# Altium footprint library Mosfet.PcbLib: 1 footprints
Each footprint in its own frame and in the unit in brackets; x right, y up, seen from the top. Pads: shape width x height; smd on the part's side, far side on the other; paste and mask are expansions set on the pad; w line width, h text height; cw(c..) or ccw(c..) is an arc to the next point about the centre after c.
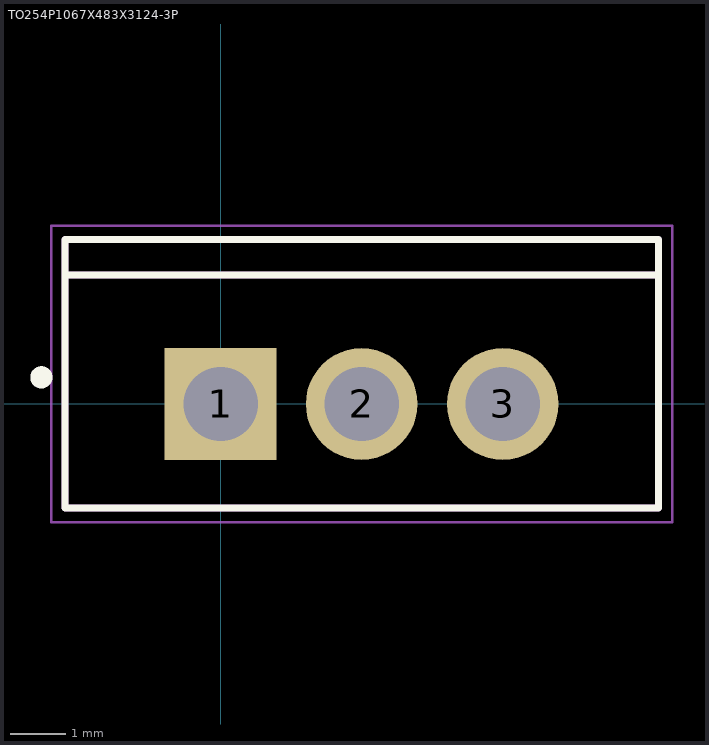
[diagram p0: the footprint, top view; thin cyan lines are the x and y axes]

## TO254P1067X483X3124-3P [mm]
pads (3):
  rect 2.01x2.01 hole 1.34: 1(0,0)
  round 2.01 hole 1.34: 2(2.54,0) 3(5.08,0)
Top Overlay:
  circle w0.2: c-3.226,0.48 r0.1
  lines w0.127: -2.8,2.325 -2.8,-1.87 7.88,-1.87 7.88,2.325 ; -2.8,2.325 -2.8,2.96 7.88,2.96 7.88,2.325 ; -2.8,2.325 7.88,2.325
Mechanical 13:
  lines w0.127: -2.8,2.325 -2.8,-1.87 7.88,-1.87 7.88,2.325 ; -2.8,2.325 -2.8,2.96 7.88,2.96 7.88,2.325 ; -2.8,2.325 7.88,2.325
Mechanical 15:
  lines w0.05: -3.05,-2.13 8.13,-2.13 8.13,3.21 -3.05,3.21 -3.05,-2.13
3D body "HeatsinkSTEP.STEP": height 47.75, standoff 5.69, extent -18.415,-9.271 23.495,16.129
3D body "IRF3205PBF.STEP": height 31.24, standoff 0, extent -2.54,-1.655 7.62,2.54